# Altium footprint library drvs-motor.PcbLib: 70 footprints (part 5 of 5)
Each footprint in its own frame and in the unit in brackets; x right, y up, seen from the top. Pads: shape width x height; smd on the part's side, far side on the other; paste and mask are expansions set on the pad; w line width, h text height; cw(c..) or ccw(c..) is an arc to the next point about the centre after c.
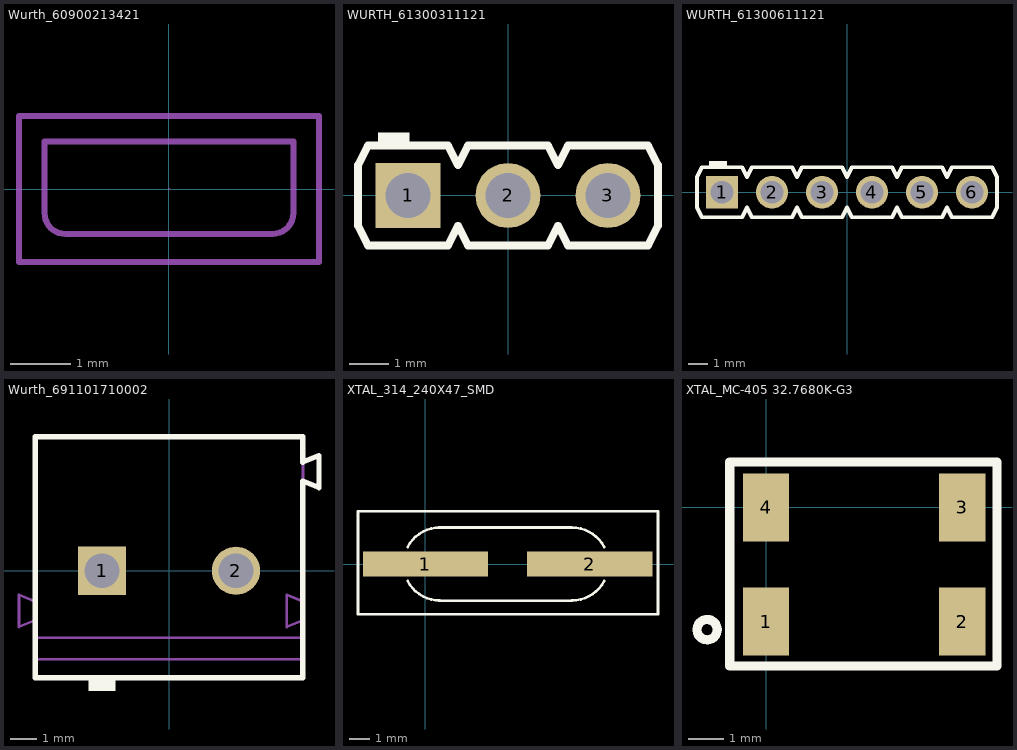
[diagram p4: the footprints below, top view; thin cyan lines are the x and y axes]

## Wurth_60900213421 [mil]
pads (1):
  round 1 on Mech3: 0(0,0)
Mechanical 5:
  lines w3.94: -98.42,-48.03 -98.42,48.03 98.43,48.03 98.43,-48.03 -98.42,-48.03 ; -81.69,-15.71 ccw(c-67.89,-15.73) -67.91,-29.53 67.92,-29.53 ccw(c67.9,-15.73) 81.7,-15.71 81.7,31.3 -81.69,31.3 -81.69,-15.71
  text ".Designator" at -58.07,-11.81 h31.5
3D body "60900213421.stp": height 235.91, standoff 0.48, extent -98.42,-48.03 98.43,48.04

## WURTH_61300311121 [mm]
pads (3):
  rect 1.65x1.65 hole 1.15: 1(-2.54,0)
  round 1.65 hole 1.15: 2(0,0) 3(2.54,0)
Top Overlay:
  rectangle: -3.3,1.3 -2.5,1.6
  lines w0.2: -3.81,-0.77 -3.56,-1.27 -1.52,-1.27 -1.27,-0.77 -1.02,-1.27 1.02,-1.27 1.27,-0.77 1.52,-1.27 3.56,-1.27 3.81,-0.77 3.81,0.77 3.56,1.27 1.52,1.27 1.27,0.77 1.02,1.27 -1.02,1.27 -1.27,0.77 -1.52,1.27 -3.56,1.27 -3.81,0.77 -3.81,-0.77
Mechanical 5:
  lines w0.1: -3.81,-0.77 -3.81,0.77 -3.56,1.27 -1.52,1.27 -1.27,0.77 -1.02,1.27 1.02,1.27 1.27,0.77 1.52,1.27 3.56,1.27 3.81,0.77 3.81,-0.77 3.56,-1.27 1.52,-1.27 1.27,-0.77 1.02,-1.27 -1.02,-1.27 -1.27,-0.77 -1.52,-1.27 -3.56,-1.27 -3.81,-0.77
  text ".Designator" at -1.524,-0.508 h1.02
3D body "61300311121.stp": height 8.54, standoff -3, extent -3.81,-1.27 3.81,1.27

## WURTH_61300611121 [mm]
pads (6):
  rect 1.65x1.65 hole 1.15: 1(-6.35,0)
  round 1.65 hole 1.15: 2(-3.81,0) 3(-1.27,0) 4(1.27,0) 5(3.81,0) 6(6.35,0)
Top Overlay:
  rectangle: -7,1.27 -6.1,1.6
  lines w0.2: -7.62,-0.77 -7.62,0.77 -7.37,1.27 -5.33,1.27 -5.08,0.77 -4.83,1.27 -2.79,1.27 -2.54,0.77 -2.29,1.27 -0.25,1.27 0,0.77 0.25,1.27 2.29,1.27 2.54,0.77 2.79,1.27 4.83,1.27 5.08,0.77 5.33,1.27 7.37,1.27 7.62,0.77 7.62,-0.77 7.37,-1.27 5.33,-1.27 5.08,-0.77 4.83,-1.27 2.79,-1.27 2.54,-0.77 2.29,-1.27 0.25,-1.27 0,-0.77 -0.25,-1.27 -2.29,-1.27 -2.54,-0.77 -2.79,-1.27 -4.83,-1.27 -5.08,-0.77 -5.33,-1.27 -7.37,-1.27 -7.62,-0.77
Mechanical 5:
  lines w0.1: -7.62,-0.77 -7.37,-1.27 -5.33,-1.27 -5.08,-0.77 -4.83,-1.27 -2.79,-1.27 -2.54,-0.77 -2.29,-1.27 -0.25,-1.27 0,-0.77 0.25,-1.27 2.29,-1.27 2.54,-0.77 2.79,-1.27 4.83,-1.27 5.08,-0.77 5.33,-1.27 7.37,-1.27 7.62,-0.77 7.62,0.77 7.37,1.27 5.33,1.27 5.08,0.77 4.83,1.27 2.79,1.27 2.54,0.77 2.29,1.27 0.25,1.27 0,0.77 -0.25,1.27 -2.29,1.27 -2.54,0.77 -2.79,1.27 -4.83,1.27 -5.08,0.77 -5.33,1.27 -7.37,1.27 -7.62,0.77 -7.62,-0.77
  text ".Designator" at -1.524,-0.508 h1.02
3D body "61300611121.stp": height 8.54, standoff -3, extent -7.62,-1.27 7.62,1.27

## Wurth_691101710002 [mm]
pads (2):
  rect 1.8x1.8 hole 1.3: 1(-2.5,0)
  round 1.8 hole 1.3: 2(2.5,0)
Top Overlay:
  rectangle: -3,-4.5 -2,-4
  lines w0.2: -5,-4 5,-4 5,3.35 5.6,3.1 5.6,4.3 5,4.05 5,5 -5,5 -5,-4
Mechanical 5:
  lines w0.1: -5,-3.3 5,-3.3 ; -5,-2.5 5,-2.5 ; -5,-1.85 -5.6,-2.1 -5.6,-0.9 -5,-1.15 ; 5,-1.85 4.4,-2.1 4.4,-0.9 5,-1.15 ; 5,3.35 5.6,3.1 5.6,4.3 5,4.05 ; -5,-4 -5,5 5,5 5,-4 -5,-4
  text ".Designator" at -1.625,-0.4 h1.02
3D body "691101710002.stp": height 12.5, standoff -3.9, extent -5.6,-4 5.6,5

## XTAL_314_240X47_SMD [mm] "CASE: TH"
height 3
pads (2):
  rect 6.096x1.2 smd: 1(0,0) 2(8,0)
Top Overlay:
  lines w0.127: -0.873,-0.825 ccw(c0.702,0) 0.702,-1.778 ; -0.873,0.825 cw(c0.702,0) 0.702,1.778 ; 0.651,-1.787 7.137,-1.787 ; 0.651,1.778 7.128,1.778 cw(c7.128,0) 8.703,0.825 ; 7.128,-1.778 ccw(c7.128,0) 8.703,-0.825 ; -3.286,-2.438 -3.286,2.565 11.319,2.565 11.319,-2.438 -3.286,-2.438
3D body: height 0.51, standoff 0, extent -1.902,-2.273 9.795,2.413
3D body: height 3.05, standoff 0, extent -1.076,-1.778 8.881,1.778
3D body: height 1.02, standoff 0, extent 8.004,-2.273 9.808,-1.003
3D body: height 1.02, standoff 0, extent -1.902,-2.273 -0.098,-1.003
3D body: height 1.02, standoff 0, extent 7.992,1.143 9.795,2.413
3D body: height 1.02, standoff 0, extent -1.889,1.143 -0.086,2.413
3D body: height 0.25, standoff 0, extent 9.579,-0.419 10.9,0.394
3D body: height 0.25, standoff 0, extent -2.994,-0.419 -1.673,0.394

## XTAL_MC-405 32.7680K-G3 [mm] "Crystal"
height 3.6
pads (4):
  rect 1.3x1.9 smd: 1(0,-3.2) 2(5.5,-3.2) 3(5.5,0) 4(0,0)
Top Overlay:
  circle w0.254: c-1.651,-3.429 r0.284
  lines w0.254: -1.016,-4.445 -1.016,1.27 6.477,1.27 6.477,-4.445 -1.016,-4.445
3D body: height 3.6, standoff 0.2, extent -1.016,-4.445 6.477,1.27